# Altium footprint library RC0805N_YAG.PcbLib: 3 footprints
Each footprint in its own frame and in the unit in brackets; x right, y up, seen from the top. Pads: shape width x height; smd on the part's side, far side on the other; paste and mask are expansions set on the pad; w line width, h text height; cw(c..) or ccw(c..) is an arc to the next point about the centre after c.
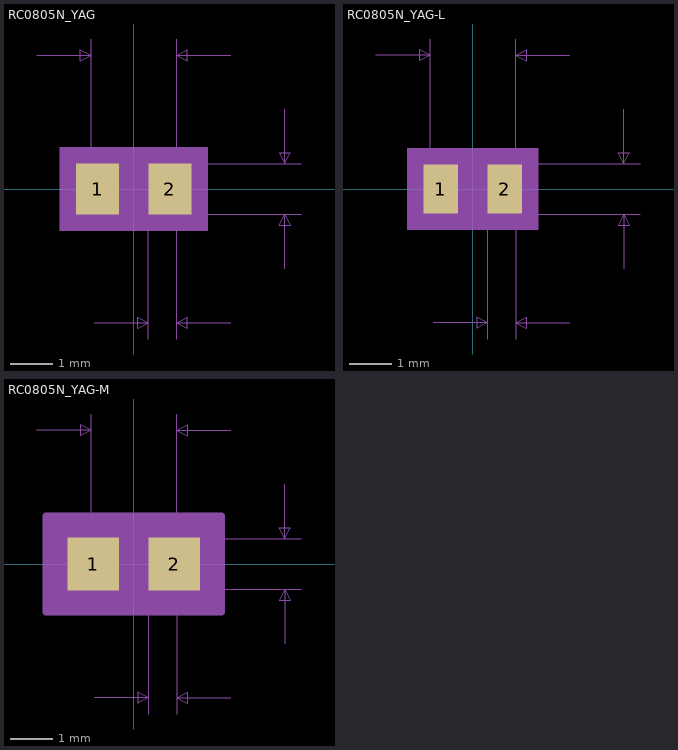
[diagram p0: the footprints below, top view; thin cyan lines are the x and y axes]

## RC0805N_YAG [mil]
pads (2):
  rect 39.78x47 smd paste+0 mask+0: 1(-33.39,0) 2(33.39,0)
Mechanical 5:
  region: 68.28,-38.5 -68.28,-38.5 -68.28,38.5 68.28,38.5
Mechanical 7:
  lines w1: -89.5,123.5 -39.5,123.5 ; -39.5,0 -39.5,138.5 ; -36.5,-123.5 13.5,-123.5 ; 0,-23.5 154.5,-23.5 ; 0,23.5 154.5,23.5 ; 13.5,-138.5 13.5,0 ; 39.5,-138.5 39.5,0 39.5,138.5 ; 89.5,-123.5 39.5,-123.5 ; 89.5,123.5 39.5,123.5 ; 139.5,-73.5 139.5,-23.5 ; 139.5,73.5 139.5,23.5 ; -39.5,123.5 -49.5,118.5 -49.5,128.5 -39.5,123.5 ; 13.5,-123.5 3.5,-128.5 3.5,-118.5 13.5,-123.5 ; 39.5,-123.5 49.5,-128.5 49.5,-118.5 39.5,-123.5 ; 39.5,123.5 49.5,118.5 49.5,128.5 39.5,123.5 ; 139.5,-23.5 144.5,-33.5 134.5,-33.5 139.5,-23.5 ; 139.5,23.5 144.5,33.5 134.5,33.5 139.5,23.5
  text "0.026in/0.66mm" at -61,-168.5 h25
  text "0.079in/2.007mm" at -93.75,143.5 h25
  text "0.047in/1.194mm" at 159.5,-12.5 h25
  text "Alternate 2 Padstyle: b229_152h76" at -412.5,-493.5 h50
  text "Alternate 1 Padstyle: b152_229h76" at -412.5,-393.5 h50
  text "Default Padstyle: r101_119" at -325,-293.5 h50
Mechanical 13:
  lines w1: -39.5,-23.5 -39.5,23.5 ; -39.5,-23.5 39.5,-23.5 ; -39.5,-23.5 -13.5,-23.5 -13.5,23.5 -39.5,23.5 ; -39.5,-23.5 -39.5,23.5 ; -39.5,23.5 39.5,23.5 ; 39.5,-23.5 39.5,23.5 ; 39.5,-23.5 39.5,23.5 ; 39.5,-23.5 13.5,-23.5 13.5,23.5 39.5,23.5
Mechanical 15:
  region: 63.28,-33.5 -63.28,-33.5 -63.28,33.5 63.28,33.5
  lines w6: -63.28,-33.5 63.28,-33.5 63.28,33.5 -63.28,33.5 -63.28,-33.5
3D body: height 10, standoff 0, extent 0,0 10,10
3D body "RC0805N_YAG.step": height 27.99, standoff 0, extent -39.48,-23.5 39.5,23.51

## RC0805N_YAG-L [mil]
pads (2):
  rect 31.91x45.03 smd paste+0 mask+0: 1(-29.45,0) 2(29.45,0)
Mechanical 5:
  region: 60.41,-37.52 -60.41,-37.52 -60.41,37.52 60.41,37.52
Mechanical 7:
  lines w1: -89.5,123.5 -39.5,123.5 ; -39.5,0 -39.5,138.5 ; -36.5,-123.5 13.5,-123.5 ; 0,-23.5 154.5,-23.5 ; 0,23.5 154.5,23.5 ; 13.5,-138.5 13.5,0 ; 39.5,-138.5 39.5,0 39.5,138.5 ; 89.5,-123.5 39.5,-123.5 ; 89.5,123.5 39.5,123.5 ; 139.5,-73.5 139.5,-23.5 ; 139.5,73.5 139.5,23.5 ; -39.5,123.5 -49.5,128.5 -49.5,118.5 -39.5,123.5 ; 13.5,-123.5 3.5,-118.5 3.5,-128.5 13.5,-123.5 ; 39.5,-123.5 49.5,-118.5 49.5,-128.5 39.5,-123.5 ; 39.5,123.5 49.5,128.5 49.5,118.5 39.5,123.5 ; 139.5,-23.5 134.5,-33.5 144.5,-33.5 139.5,-23.5 ; 139.5,23.5 134.5,33.5 144.5,33.5 139.5,23.5
  text "Default Padstyle: r81_114" at -312.5,-292.52 h50
  text "Alternate 1 Padstyle: b152_229h76" at -412.5,-392.52 h50
  text "Alternate 2 Padstyle: b229_152h76" at -412.5,-492.52 h50
  text "0.047in/1.194mm" at 159.5,-12.5 h25
  text "0.079in/2.007mm" at -93.75,143.5 h25
  text "0.026in/0.66mm" at -61,-168.5 h25
Mechanical 13:
  lines w1: -39.5,-23.5 -39.5,23.5 ; -39.5,-23.5 -13.5,-23.5 -13.5,23.5 -39.5,23.5 ; -39.5,-23.5 39.5,-23.5 ; -39.5,-23.5 -39.5,23.5 ; -39.5,23.5 39.5,23.5 ; 39.5,-23.5 13.5,-23.5 13.5,23.5 39.5,23.5 ; 39.5,-23.5 39.5,23.5 ; 39.5,-23.5 39.5,23.5
Mechanical 15:
  region: 49.41,-26.52 -49.41,-26.52 -49.41,26.52 49.41,26.52
  lines w6: -49.41,-26.52 -49.41,26.52 49.41,26.52 49.41,-26.52 -49.41,-26.52
3D body: height 10, standoff 0, extent 0,0 10,10

## RC0805N_YAG-M [mil]
pads (2):
  rect 47.65x48.97 smd paste+0 mask+0: 1(-37.33,0) 2(37.33,0)
Mechanical 5:
  region: 76.15,-39.48 -76.15,-39.48 -76.15,39.48 76.15,39.48
Mechanical 7:
  lines w1: -89.5,123.5 -39.5,123.5 ; -39.5,0 -39.5,138.5 ; -36.5,-123.5 13.5,-123.5 ; 0,-23.5 154.5,-23.5 ; 0,23.5 154.5,23.5 ; 13.5,-138.5 13.5,0 ; 39.5,-138.5 39.5,0 39.5,138.5 ; 89.5,-123.5 39.5,-123.5 ; 89.5,123.5 39.5,123.5 ; 139.5,-73.5 139.5,-23.5 ; 139.5,73.5 139.5,23.5 ; -39.5,123.5 -49.5,128.5 -49.5,118.5 -39.5,123.5 ; 13.5,-123.5 3.5,-118.5 3.5,-128.5 13.5,-123.5 ; 39.5,-123.5 49.5,-118.5 49.5,-128.5 39.5,-123.5 ; 39.5,123.5 49.5,128.5 49.5,118.5 39.5,123.5 ; 139.5,-23.5 134.5,-33.5 144.5,-33.5 139.5,-23.5 ; 139.5,23.5 134.5,33.5 144.5,33.5 139.5,23.5
  text "Default Padstyle: r121_124" at -325,-294.48 h50
  text "Alternate 1 Padstyle: b152_229h76" at -412.5,-394.48 h50
  text "Alternate 2 Padstyle: b229_152h76" at -412.5,-494.48 h50
  text "0.047in/1.194mm" at 159.5,-12.5 h25
  text "0.079in/2.007mm" at -93.75,143.5 h25
  text "0.026in/0.66mm" at -61,-168.5 h25
Mechanical 13:
  lines w1: -39.5,-23.5 -39.5,23.5 ; -39.5,-23.5 -13.5,-23.5 -13.5,23.5 -39.5,23.5 ; -39.5,-23.5 39.5,-23.5 ; -39.5,-23.5 -39.5,23.5 ; -39.5,23.5 39.5,23.5 ; 39.5,-23.5 13.5,-23.5 13.5,23.5 39.5,23.5 ; 39.5,-23.5 39.5,23.5 ; 39.5,-23.5 39.5,23.5
Mechanical 15:
  region: 81.15,-44.48 -81.15,-44.48 -81.15,44.48 81.15,44.48
  lines w6: -81.15,-44.48 -81.15,44.48 81.15,44.48 81.15,-44.48 -81.15,-44.48
3D body: height 10, standoff 0, extent 0,0 10,10